# Altium footprint library Film_X2_15mm.PcbLib: 1 footprints
Each footprint in its own frame and in the unit in brackets; x right, y up, seen from the top. Pads: shape width x height; smd on the part's side, far side on the other; paste and mask are expansions set on the pad; w line width, h text height; cw(c..) or ccw(c..) is an arc to the next point about the centre after c.
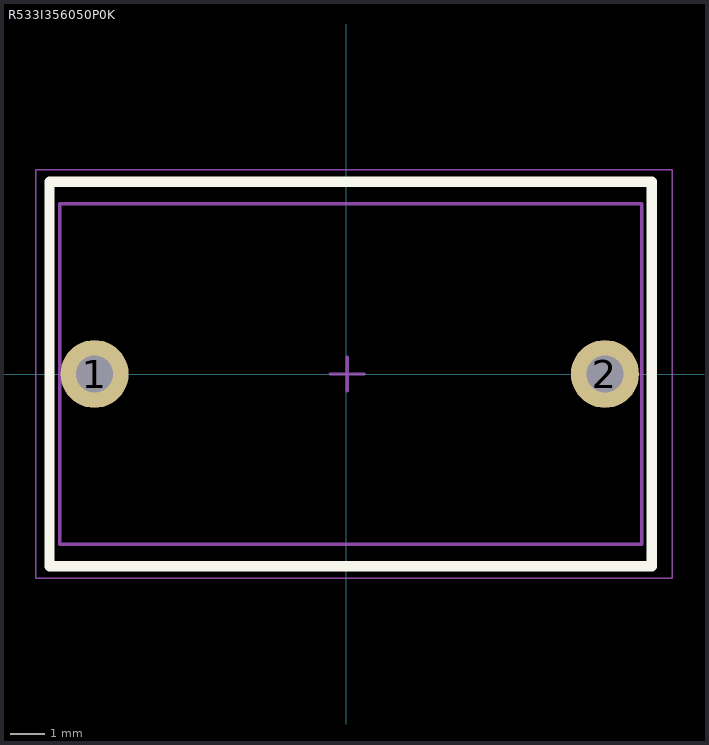
[diagram p0: the footprint, top view; thin cyan lines are the x and y axes]

## R533I356050P0K [mm]
height 17
pads (2):
  round 2 hole 1.1: 1(-7.4,0) 2(7.6,0)
Top Overlay:
  lines w0.2: -8.725,-5.65 -6.975,-5.65
  lines w0.3: -8.725,-5.65 8.975,-5.65 8.975,5.65 -8.725,5.65 -8.725,-5.65
Mechanical 13:
  lines w0.1: -8.425,-5 -8.425,5 8.675,5 8.675,-5 -8.425,-5
Mechanical 15:
  lines w0.05: -9.125,-6 -9.125,6 9.575,6 9.575,-6 -9.125,-6
  lines w0.1: -0.475,0 0.525,0 ; 0.025,-0.5 0.025,0.5
3D body: height 17, standoff 0, extent -7.425,-5 7.85,5
3D body: height 17, standoff 0, extent -8.425,-5 -7.425,5
3D body: height 17, standoff 0, extent 7.85,-5 8.85,5